# Altium schematic symbol library 2174507-2.SchLib: 1 symbol
Pins are listed as number, name and electrical type; pins without a type are passive.

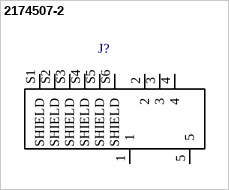
[diagram p0: symbol 2174507-2]

## 2174507-2
designator J?  (value not drawn)
REC TYPE-B ASSY MICRO USB I/O; MF: TE Connectivity; Product_Type: Connector; Number_of_Positions: 5; Centerline_Pitch: .65 mm[.025 in]; SnapEDA_Link: https://www.snapeda.com/parts/2174507-2/TE%20Connectivity%20AMP%20Connectors/view-part/?ref=snap; Link: http://www.te.com/usa-en/product-2174507-2.html; MP: 2174507-2; Package: None; Price: None; Availability: Unavailable; EU_RoHS_Compliance: Compliant; Value: *
footprint J_SMD_2174507-2-5_7.8_5_2.71_2174507-2(Primary)
pins: 1, 2, 3, 4, 5, S1 SHIELD, S2 SHIELD, S3 SHIELD, S4 SHIELD, S5 SHIELD, S6 SHIELD